# Altium footprint library WE-PPTM.PcbLib: 2 footprints
Each footprint in its own frame and in the unit in brackets; x right, y up, seen from the top. Pads: shape width x height; smd on the part's side, far side on the other; paste and mask are expansions set on the pad; w line width, h text height; cw(c..) or ccw(c..) is an arc to the next point about the centre after c.
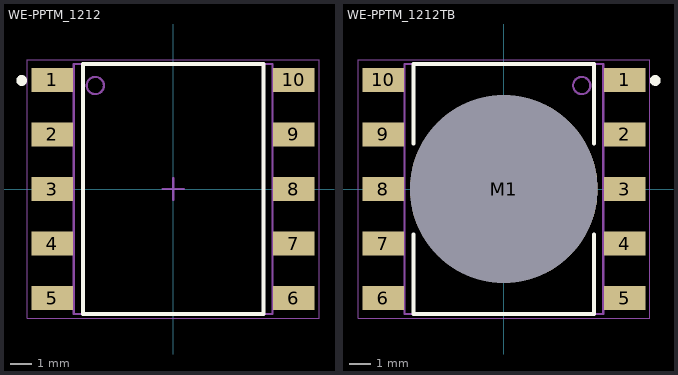
[diagram p0: the footprints below, top view; thin cyan lines are the x and y axes]

## WE-PPTM_1212 [mm] "Push-Pull Transformer, SMT, body 12.6 x 11.63 mm"
height 3.68
pads (10):
  rect 1.93x1.11 smd: 1(-5.62,5.08) 2(-5.62,2.54) 3(-5.62,0) 4(-5.62,-2.54) 5(-5.62,-5.08) 6(5.62,-5.08) 7(5.62,-2.54) 8(5.62,0) 9(5.62,2.54) 10(5.62,5.08)
Top Overlay:
  circle w0.25: c-7.05,5.05 r0.125
  lines w0.2: -4.2,-5.815 4.2,-5.815 4.2,5.815 -4.2,5.815 -4.2,-5.815
Top Assembly:
  circle w0.1: c-3.625,4.815 r0.4
  lines w0.1: -4.625,-5.33 -6.3,-5.33 -6.3,-4.83 -4.625,-4.83 ; -4.625,-2.79 -6.3,-2.79 -6.3,-2.29 -4.625,-2.29 ; -4.625,-0.25 -6.3,-0.25 -6.3,0.25 -4.625,0.25 ; -4.625,2.29 -6.3,2.29 -6.3,2.79 -4.625,2.79 ; -4.625,4.83 -6.3,4.83 -6.3,5.33 -4.625,5.33 ; 4.625,-5.33 6.3,-5.33 6.3,-4.83 4.625,-4.83 ; 4.625,-2.79 6.3,-2.79 6.3,-2.29 4.625,-2.29 ; 4.625,-0.25 6.3,-0.25 6.3,0.25 4.625,0.25 ; 4.625,2.29 6.3,2.29 6.3,2.79 4.625,2.79 ; 4.625,4.83 6.3,4.83 6.3,5.33 4.625,5.33 ; -4.625,-5.815 -4.625,5.815 4.625,5.815 4.625,-5.815 -4.625,-5.815
Top Designator:
  text ".Designator" at -3.647,-0.357 h1
Top 3D Body:
  circle w0.1: c-3.625,4.815 r0.4
  lines w0.1: -4.625,-5.33 -6.3,-5.33 -6.3,-4.83 -4.625,-4.83 ; -4.625,-2.79 -6.3,-2.79 -6.3,-2.29 -4.625,-2.29 ; -4.625,-0.25 -6.3,-0.25 -6.3,0.25 -4.625,0.25 ; -4.625,2.29 -6.3,2.29 -6.3,2.79 -4.625,2.79 ; -4.625,4.83 -6.3,4.83 -6.3,5.33 -4.625,5.33 ; 4.625,-5.33 6.3,-5.33 6.3,-4.83 4.625,-4.83 ; 4.625,-2.79 6.3,-2.79 6.3,-2.29 4.625,-2.29 ; 4.625,-0.25 6.3,-0.25 6.3,0.25 4.625,0.25 ; 4.625,2.29 6.3,2.29 6.3,2.79 4.625,2.79 ; 4.625,4.83 6.3,4.83 6.3,5.33 4.625,5.33 ; -4.625,-5.815 -4.625,5.815 4.625,5.815 4.625,-5.815 -4.625,-5.815
Top Courtyard:
  lines w0.05: -6.785,-6.015 -6.785,6.015 6.785,6.015 6.785,-6.015 -6.785,-6.015
Top Component Center:
  lines w0.1: -0.5,0 0.5,0 ; 0,-0.5 0,0.5
3D body "Download_STP_250-1240 (rev1).STEP": height 3.43, standoff 0, extent -6.033,-5.75 6.033,5.75

## WE-PPTM_1212TB [mm] "Push-Pull Transformer, SMT, body 12.6 x 11.63 mm"
height 3.99
pads (11):
  rect 1.93x1.11 smd: 1(5.62,5.08) 2(5.62,2.54) 3(5.62,0) 4(5.62,-2.54) 5(5.62,-5.08) 6(-5.62,-5.08) 7(-5.62,-2.54) 8(-5.62,0) 9(-5.62,2.54) 10(-5.62,5.08)
  round 8.73 hole 8.73 unplated: M1(0,0)
Top Overlay:
  circle w0.25: c7.05,5.05 r0.125
  lines w0.2: -4.2,-2.115 -4.2,-5.815 4.2,-5.815 4.2,-2.115 ; -4.2,2.115 -4.2,5.815 4.2,5.815 4.2,2.115
Top Assembly:
  circle w0.1: c3.625,4.815 r0.4
  lines w0.1: -4.625,-5.33 -6.3,-5.33 -6.3,-4.83 -4.625,-4.83 ; -4.625,-2.79 -6.3,-2.79 -6.3,-2.29 -4.625,-2.29 ; -4.625,-0.25 -6.3,-0.25 -6.3,0.25 -4.625,0.25 ; -4.625,2.29 -6.3,2.29 -6.3,2.79 -4.625,2.79 ; -4.625,4.83 -6.3,4.83 -6.3,5.33 -4.625,5.33 ; 4.625,-5.33 6.3,-5.33 6.3,-4.83 4.625,-4.83 ; 4.625,-2.79 6.3,-2.79 6.3,-2.29 4.625,-2.29 ; 4.625,-0.25 6.3,-0.25 6.3,0.25 4.625,0.25 ; 4.625,2.29 6.3,2.29 6.3,2.79 4.625,2.79 ; 4.625,4.83 6.3,4.83 6.3,5.33 4.625,5.33 ; -4.625,-5.815 -4.625,5.815 4.625,5.815 4.625,-5.815 -4.625,-5.815
Top Designator:
  text ".Designator" at -3.647,-0.357 h1
Top 3D Body:
  circle w0.1: c3.625,4.815 r0.4
  lines w0.1: -4.625,-5.33 -6.3,-5.33 -6.3,-4.83 -4.625,-4.83 ; -4.625,-2.79 -6.3,-2.79 -6.3,-2.29 -4.625,-2.29 ; -4.625,-0.25 -6.3,-0.25 -6.3,0.25 -4.625,0.25 ; -4.625,2.29 -6.3,2.29 -6.3,2.79 -4.625,2.79 ; -4.625,4.83 -6.3,4.83 -6.3,5.33 -4.625,5.33 ; 4.625,-5.33 6.3,-5.33 6.3,-4.83 4.625,-4.83 ; 4.625,-2.79 6.3,-2.79 6.3,-2.29 4.625,-2.29 ; 4.625,-0.25 6.3,-0.25 6.3,0.25 4.625,0.25 ; 4.625,2.29 6.3,2.29 6.3,2.79 4.625,2.79 ; 4.625,4.83 6.3,4.83 6.3,5.33 4.625,5.33 ; -4.625,-5.815 4.625,-5.815 4.625,5.815 -4.625,5.815 -4.625,-5.815
Top Courtyard:
  lines w0.05: -6.785,-6.015 -6.785,6.015 6.785,6.015 6.785,-6.015 -6.785,-6.015
Top Component Center:
  lines w0.1: -0.5,0 0.5,0 ; 0,-0.5 0,0.5
3D body "Download_STP_250-1239 (rev1).STEP": height 1.95, standoff -1.95, extent -6.035,-5.75 6.035,5.75